# EAGLE library part FDG6342L (library awickert)
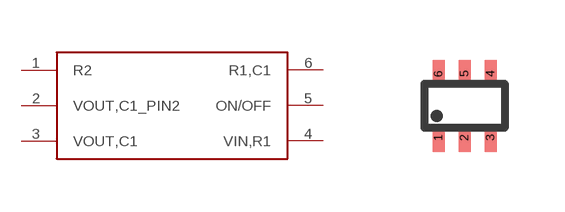
[diagram p2: symbol with the pads of SOT-363; footprint SOT-363]

Designator prefix -

## FDG6342L  [SOT-363]
1  R2
2  VOUT,C1_PIN2
3  VOUT,C1
4  VIN,R1
5  ON/OFF
6  R1,C1

## Footprint SOT-363 (pad centres in mm)
smd 0.3 x 0.7: 1 -0.65,-0.8; 2 0,-0.8; 3 0.65,-0.8; 4 0.65,0.8; 5 0,0.8; 6 -0.65,0.8